# EAGLE library part TLV5629 (library xess)
Octal 8-bit DAC
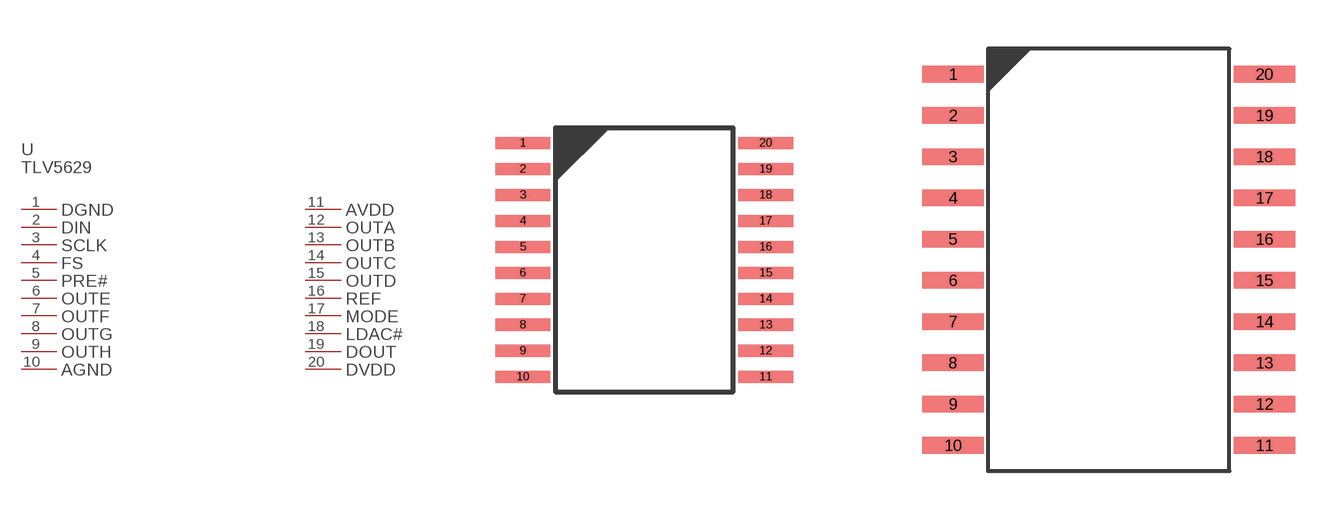
[diagram p72: symbol with the pads of TLV5629PW; footprints TLV5629PW, TLV5629DW]

Designator prefix U; gates PART_VALUE=PART_VALUE-TLV5629PW DGND=PL-TLV5629PW DIN=PL-TLV5629PW SCLK=PL-TLV5629PW FS=PL-TLV5629PW PRE#=PL-TLV5629PW OUTE=PL-TLV5629PW OUTF=PL-TLV5629PW OUTG=PL-TLV5629PW OUTH=PL-TLV5629PW AGND=PL-TLV5629PW AVDD=PL-TLV5629PW OUTA=PL-TLV5629PW OUTB=PL-TLV5629PW OUTC=PL-TLV5629PW OUTD=PL-TLV5629PW REF=PL-TLV5629PW MODE=PL-TLV5629PW LDAC#=PL-TLV5629PW DOUT=PL-TLV5629PW DVDD=PL-TLV5629PW

## TLV5629PW  [TLV5629PW]
1  DGND:P$1
2  DIN:P$1
3  SCLK:P$1
4  FS:P$1
5  PRE#:P$1
6  OUTE:P$1
7  OUTF:P$1
8  OUTG:P$1
9  OUTH:P$1
10  AGND:P$1
11  AVDD:P$1
12  OUTA:P$1
13  OUTB:P$1
14  OUTC:P$1
15  OUTD:P$1
16  REF:P$1
17  MODE:P$1
18  LDAC#:P$1
19  DOUT:P$1
20  DVDD:P$1

## TLV5629DW  [TLV5629DW]
Pads as for TLV5629PW

## Footprint TLV5629PW (pad centres in mm)
smd 1.37 x 0.3: 1 -0.11,0; 2 -0.11,-0.65; 3 -0.11,-1.3; 4 -0.11,-1.95; 5 -0.11,-2.6; 6 -0.11,-3.25; 7 -0.11,-3.9; 8 -0.11,-4.55; 9 -0.11,-5.2; 10 -0.11,-5.85; 11 5.96,-5.85; 12 5.96,-5.2; 13 5.96,-4.55; 14 5.96,-3.9; 15 5.96,-3.25; 16 5.96,-2.6; 17 5.96,-1.95; 18 5.96,-1.3; 19 5.96,-0.65; 20 5.96,0

## Footprint TLV5629DW (pad centres in mm)
smd 1.89 x 0.51: 1 -0.11,0; 2 -0.11,-1.27; 3 -0.11,-2.54; 4 -0.11,-3.81; 5 -0.11,-5.08; 6 -0.11,-6.35; 7 -0.11,-7.62; 8 -0.11,-8.89; 9 -0.11,-10.16; 10 -0.11,-11.43; 11 9.47,-11.43; 12 9.47,-10.16; 13 9.47,-8.89; 14 9.47,-7.62; 15 9.47,-6.35; 16 9.47,-5.08; 17 9.47,-3.81; 18 9.47,-2.54; 19 9.47,-1.27; 20 9.47,0